# Altium footprint library thesis_footprint_lib.PcbLib: 64 footprints (part 2 of 4)
Each footprint in its own frame and in the unit in brackets; x right, y up, seen from the top. Pads: shape width x height; smd on the part's side, far side on the other; paste and mask are expansions set on the pad; w line width, h text height; cw(c..) or ccw(c..) is an arc to the next point about the centre after c.
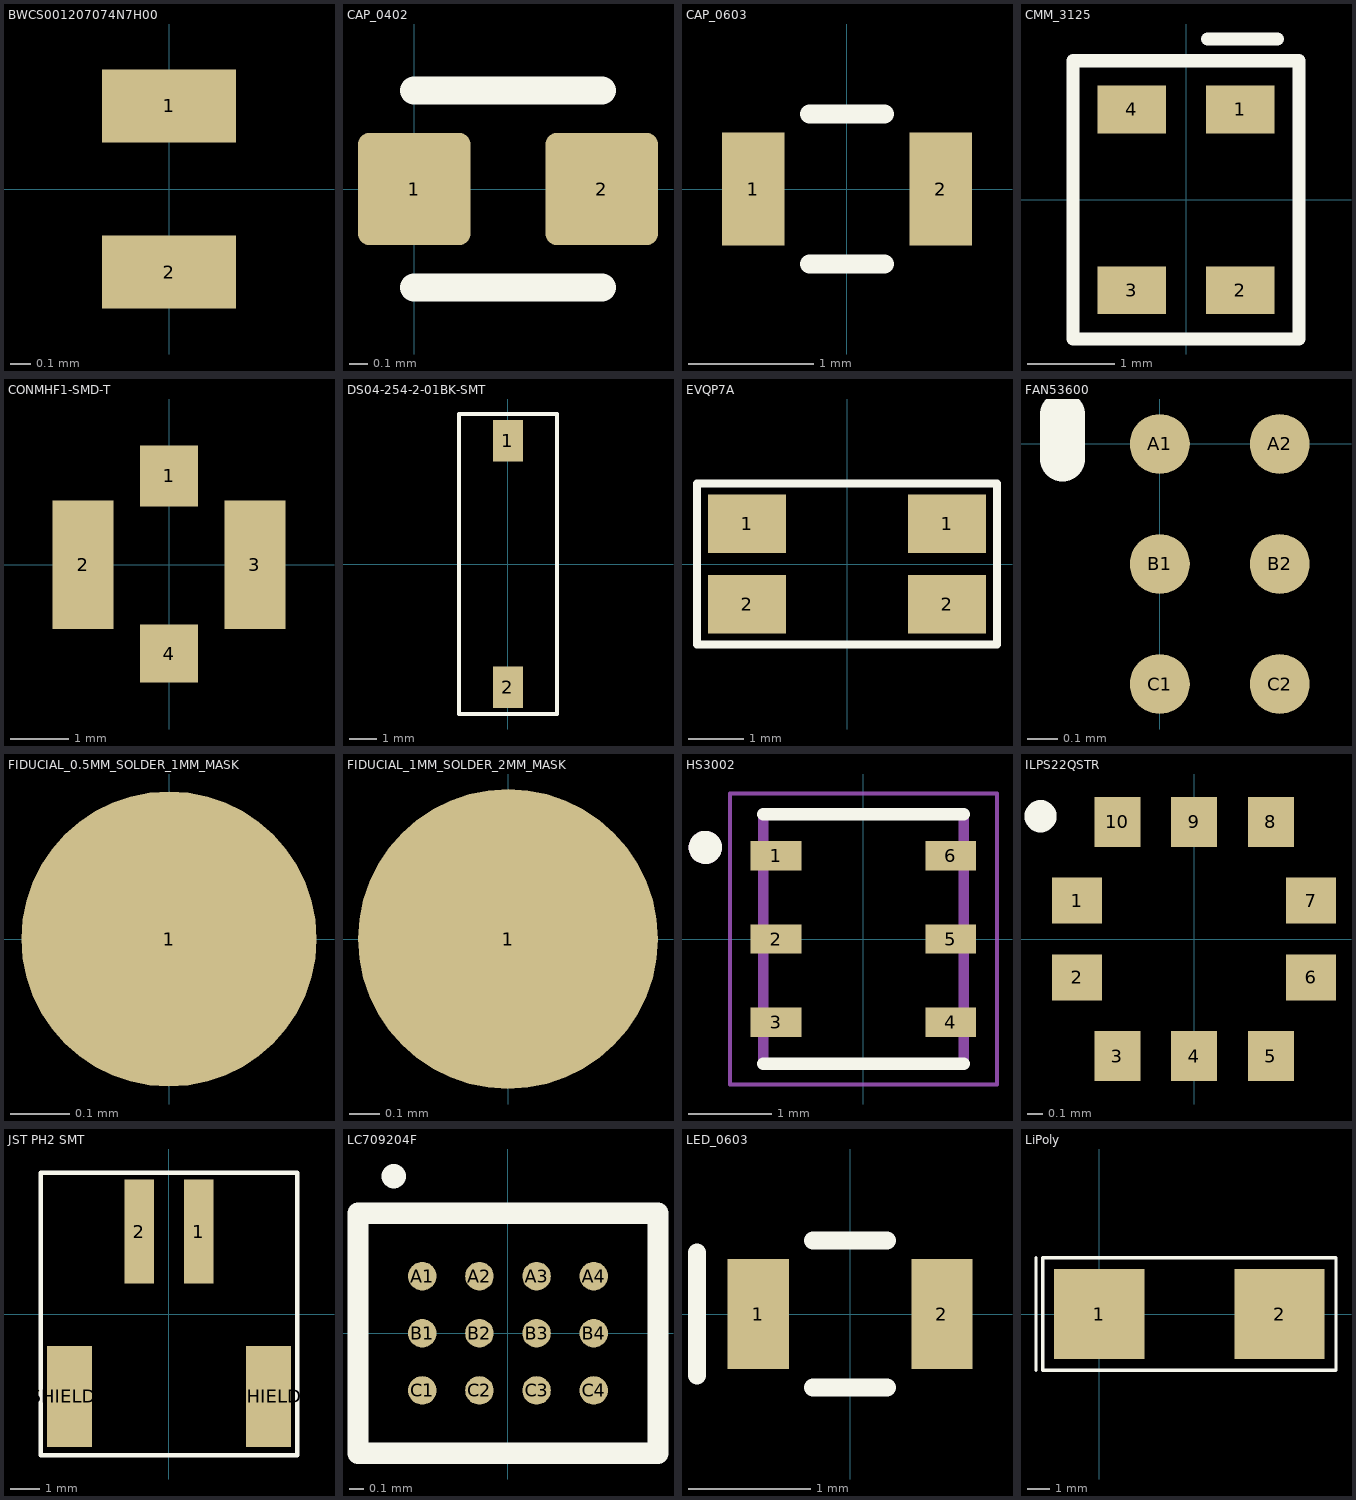
[diagram p1: the footprints below, top view; thin cyan lines are the x and y axes]

## BWCS001207074N7H00 [mm] "Inductor 0402"
pads (2):
  rect 0.66x0.36 smd mask+0.05: 1(0,0.41) 2(0,-0.41)
3D body: height 0.66, standoff 0, extent -0.32,-0.6 0.32,0.6

## CAP_0402 [mm]
pads (2):
  rrect20% 0.6x0.6 smd mask+0.05: 1(0,0) 2(1,0)
Top Overlay:
  lines w0.15: 0,-0.525 1,-0.525 ; 0,0.525 1,0.525
3D body: height 0.6, standoff 0, extent 0.25,-0.25 0.75,0.25
3D body: height 0.6, standoff 0, extent 0,-0.25 0.25,0.25
3D body: height 0.6, standoff 0, extent 0.75,-0.25 1,0.25

## CAP_0603 [mm]
pads (2):
  rect 0.5x0.9 smd mask+0: 1(-0.75,0) 2(0.75,0)
Top Overlay:
  lines w0.15: -0.3,-0.6 0.3,-0.6 ; -0.3,0.6 0.3,0.6
3D body: height 0.9, standoff 0, extent -0.5,-0.4 0.5,0.4
3D body: height 0.9, standoff 0, extent -0.8,-0.4 -0.5,0.4
3D body: height 0.9, standoff 0, extent 0.5,-0.4 0.8,0.4

## CMM_3125 [mm] "MEMS Microphone"
pads (4):
  rect 0.79x0.55 smd mask+0.05: 1(0.625,1.04) 2(0.625,-1.04) 3(-0.625,-1.04) 4(-0.625,1.04)
Top Overlay:
  lines w0.15: 0.25,1.85 1.05,1.85 ; -1.3,-1.6 1.3,-1.6 1.3,1.6 -1.3,1.6 -1.3,-1.6
3D body: height 1.1, standoff 0, extent -1.25,-1.55 1.25,1.55

## CONMHF1-SMD-T [mm]
pads (4):
  rect 1x1.05 smd mask+0: 1(0,1.525)
  rect 1.05x2.2 smd mask+0: 2(-1.475,0) 3(1.475,0)
  rect 1x1 smd mask+0: 4(0,-1.525)
3D body: height 0.35, standoff 0, extent -1.3,-1.3 1.3,1.3
3D body: height 0.18, standoff 0, extent -0.25,-1.55 0.25,1.55
3D body: height 0.18, standoff 0, extent -1.5,-0.9 1.5,0.9
3D body: height 1.25, standoff 0, extent -1,-1 1,1

## DS04-254-2-01BK-SMT [mm] "1 position 2.5mm pitch SMT DIP switch"
pads (2):
  rect 1.1x1.5 smd paste-0.033 mask+0.05: 1(0,4.45) 2(0,-4.45)
Top Overlay:
  lines w0.15: -1.77,-5.425 1.77,-5.425 1.77,5.425 -1.77,5.425 -1.77,-5.425
3D body: height 4.55, standoff 4, extent -0.8,0.6 0.8,2
3D body: height 0.26, standoff 0, extent -0.3,-4.5 0.3,4.5
3D body: height 4, standoff 0, extent -1.7,-3.1 1.7,3.1

## EVQP7A [mm] "Right angle tactile switch"
pads (4):
  rect 1.4x1.05 smd mask+0.05: 1(-1.8,0.725) 1(1.8,0.725) 2(-1.8,-0.725) 2(1.8,-0.725)
Top Overlay:
  lines w0.15: -2.7,-1.45 -2.7,1.45 2.7,1.45 2.7,-1.45 -2.7,-1.45
3D body: height 1.1, standoff 0.13, extent -0.85,-2.1 0.85,-1.45
3D body: height 0.2, standoff 0, extent -2.35,0.45 2.35,1.05
3D body: height 0.2, standoff 0, extent -2.35,-1.05 2.35,-0.45
3D body: height 1.35, standoff 0, extent -1.75,-1.45 1.75,1.45

## FAN53600 [mm] "6-UBGA DC-DC voltage regulator"
height 0.6
pads (6):
  round 0.2 smd mask+0.05: A1(0,0) A2(0.4,0) B1(0,-0.4) B2(0.4,-0.4) C1(0,-0.8) C2(0.4,-0.8)
Top Overlay:
  lines w0.15: -0.325,-0.05 -0.325,0.1
3D body: height 0.38, standoff 0.16, extent -0.23,-0.98 0.63,0.18
3D body: height 0.18, standoff -0.02, extent -0.1,-0.1 0.1,0.1
3D body: height 0.18, standoff -0.02, extent 0.3,-0.1 0.5,0.1
3D body: height 0.18, standoff -0.02, extent 0.3,-0.5 0.5,-0.3
3D body: height 0.18, standoff -0.02, extent -0.1,-0.5 0.1,-0.3
3D body: height 0.18, standoff -0.02, extent -0.1,-0.9 0.1,-0.7
3D body: height 0.18, standoff -0.02, extent 0.3,-0.9 0.5,-0.7

## FIDUCIAL_0.5MM_SOLDER_1MM_MASK [mm]
pads (1):
  round 0.5 smd mask+0.25: 1(0,0)

## FIDUCIAL_1MM_SOLDER_2MM_MASK [mm]
pads (1):
  round 1 smd mask+0.5: 1(0,0)

## HS3002 [mm] "Humidity sensor"
height 0.8
pads (6):
  rect 0.61x0.35 smd: 1(-1.05,1) 2(-1.05,0) 3(-1.05,-1) 4(1.05,-1) 5(1.05,0) 6(1.05,1)
Top Overlay:
  circle w0.2: c-1.9,1.1 r0.1
  lines w0.15: -1.205,-1.5 1.205,-1.5 ; -1.205,1.5 1.205,1.5
Mechanical 13:
  circle w0.2: c-1.9,1.1 r0.1
  lines w0.127: -1.205,-1.5 1.205,-1.5 1.205,1.5 -1.205,1.5 -1.205,-1.5
Mechanical 15:
  lines w0.05: -1.605,-1.75 1.605,-1.75 1.605,1.75 -1.605,1.75 -1.605,-1.75
3D body: height 0.8, standoff 0, extent -1.25,-1.5 1.25,1.5

## ILPS22QSTR [mm]
pads (10):
  rect 0.325x0.3 smd mask+0.05: 1(-0.762,0.25) 2(-0.762,-0.25) 6(0.763,-0.25) 7(0.763,0.25)
  rect 0.3x0.325 smd mask+0.05: 3(-0.5,-0.762) 4(0,-0.762) 5(0.5,-0.762) 8(0.5,0.763) 9(0,0.763) 10(-0.5,0.763)
Top Overlay:
  circle w0.15: c-1,0.8 r0.03
3D body: height 0.8, standoff 0, extent -1,-1 1,1

## JST PH2 SMT [mm] "JST PH 2pin connector SMT"
pads (4):
  rect 1x3.5 smd paste-0.04 mask+0.05: 1(1,2.775) 2(-1,2.775)
  rect 1.5x3.4 smd paste-0.053 mask+0.05: SHIELD(3.35,-2.775) SHIELD1(-3.35,-2.775)
Top Overlay:
  lines w0.15: -4.325,-4.75 4.325,-4.75 4.325,4.75 -4.325,4.75 -4.325,-4.75

## LC709204F [mm] "on-semi I2C Li-Ion/Li-Pol fuel gauge IC"
pads (12):
  round 0.2 smd paste-2539.97 mask+0.05: A1(-0.6,0.4) A2(-0.2,0.4) A3(0.2,0.4) A4(0.6,0.4) B1(-0.6,0) B2(-0.2,0) B3(0.2,0) B4(0.6,0) C1(-0.6,-0.4) C2(-0.2,-0.4) C3(0.2,-0.4) C4(0.6,-0.4)
Top Overlay:
  circle w0.15: c-0.8,1.1 r0.01
  lines w0.15: -1.05,-0.84 1.05,-0.84 1.05,0.84 -1.05,0.84 -1.05,-0.84
Top Paste:
  region: -0.68,0.48 -0.52,0.48 -0.52,0.32 -0.68,0.32
  region: -0.28,0.48 -0.12,0.48 -0.12,0.32 -0.28,0.32
  region: 0.12,0.48 0.28,0.48 0.28,0.32 0.12,0.32
  region: 0.52,0.48 0.68,0.48 0.68,0.32 0.52,0.32
  region: -0.68,0.08 -0.52,0.08 -0.52,-0.08 -0.68,-0.08
  region: -0.28,0.08 -0.12,0.08 -0.12,-0.08 -0.28,-0.08
  region: 0.12,0.08 0.28,0.08 0.28,-0.08 0.12,-0.08
  region: 0.52,0.08 0.68,0.08 0.68,-0.08 0.52,-0.08
  region: -0.68,-0.32 -0.52,-0.32 -0.52,-0.48 -0.68,-0.48
  region: -0.28,-0.32 -0.12,-0.32 -0.12,-0.48 -0.28,-0.48
  region: 0.12,-0.32 0.28,-0.32 0.28,-0.48 0.12,-0.48
  region: 0.52,-0.32 0.68,-0.32 0.68,-0.48 0.52,-0.48
3D body: height 0.51, standoff 0.21, extent -0.96,-0.74 0.96,0.74
3D body: height 0.26, standoff 0, extent -0.33,-0.53 -0.07,-0.27
3D body: height 0.26, standoff 0, extent -0.33,0.27 -0.07,0.53
3D body: height 0.26, standoff 0, extent 0.47,-0.53 0.73,-0.27
3D body: height 0.26, standoff 0, extent 0.47,-0.13 0.73,0.13
3D body: height 0.26, standoff 0, extent 0.47,0.27 0.73,0.53
3D body: height 0.26, standoff 0, extent 0.07,-0.53 0.33,-0.27
3D body: height 0.26, standoff 0, extent -0.73,-0.53 -0.47,-0.27
3D body: height 0.26, standoff 0, extent 0.07,-0.13 0.33,0.13
3D body: height 0.26, standoff 0, extent -0.33,-0.13 -0.07,0.13
3D body: height 0.26, standoff 0, extent -0.73,-0.13 -0.47,0.13
3D body: height 0.26, standoff 0, extent 0.07,0.27 0.33,0.53
3D body: height 0.26, standoff 0, extent -0.73,0.27 -0.47,0.53

## LED_0603 [mm]
pads (2):
  rect 0.5x0.9 smd mask+0: 1(-0.75,0) 2(0.75,0)
Top Overlay:
  lines w0.15: -1.25,-0.5 -1.25,0.5 ; -0.3,-0.6 0.3,-0.6 ; -0.3,0.6 0.3,0.6
3D body: height 0.9, standoff 0, extent 0.5,-0.4 0.8,0.4
3D body: height 0.9, standoff 0, extent -0.8,-0.4 -0.5,0.4
3D body: height 0.9, standoff 0, extent -0.5,-0.4 0.5,0.4

## LiPoly [mm] "SMD LiPoly"
pads (2):
  rect 4x4 smd mask+0: 1(0,0) 2(8,0)
Top Overlay:
  lines w0.15: -2.8,-2.5 -2.8,2.5 ; -2.5,-2.5 10.5,-2.5 10.5,2.5 -2.5,2.5 -2.5,-2.5